# Altium footprint library Connectors.PcbLib: 3 footprints
Each footprint in its own frame and in the unit in brackets; x right, y up, seen from the top. Pads: shape width x height; smd on the part's side, far side on the other; paste and mask are expansions set on the pad; w line width, h text height; cw(c..) or ccw(c..) is an arc to the next point about the centre after c.
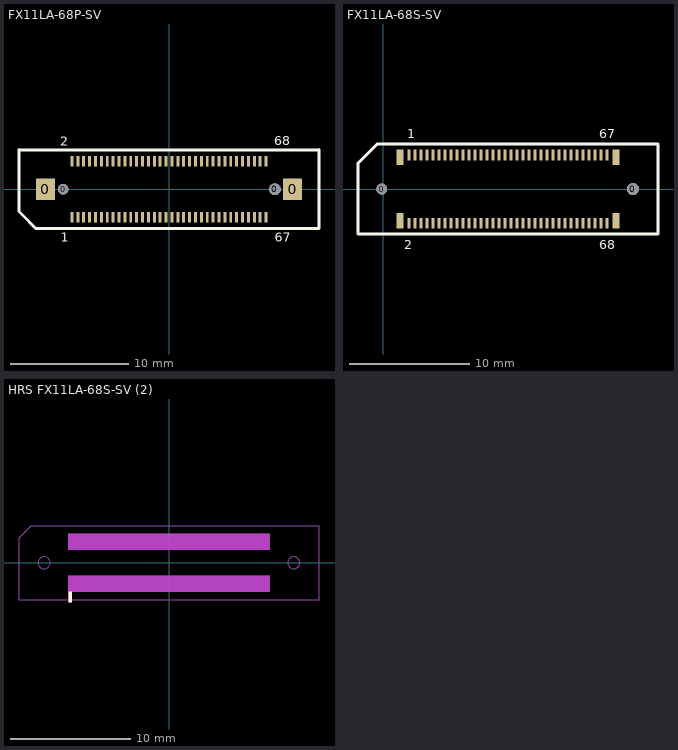
[diagram p0: the footprints below, top view; thin cyan lines are the x and y axes]

## FX11LA-68P-SV [mm] "HIROSE FX11L 2.0 mm stack height, w/ guidepost, header"
height 1.9
pads (72):
  rect 1.6x1.8 smd: 0(-10.5,0) 0(10.5,0)
  round 0.9 hole 0.9 unplated: 0(-9,0)
  round 1 hole 1 unplated: 0(9,0)
  rect 0.25x0.9 smd: 1(-8.25,-2.375) 2(-8.25,2.375) 3(-7.75,-2.375) 4(-7.75,2.375) 5(-7.25,-2.375) 6(-7.25,2.375) 7(-6.75,-2.375) 8(-6.75,2.375) 9(-6.25,-2.375) 10(-6.25,2.375) 11(-5.75,-2.375) 12(-5.75,2.375) 13(-5.25,-2.375) 14(-5.25,2.375) 15(-4.75,-2.375) 16(-4.75,2.375) 17(-4.25,-2.375) 18(-4.25,2.375) 19(-3.75,-2.375) 20(-3.75,2.375) 21(-3.25,-2.375) 22(-3.25,2.375) 23(-2.75,-2.375) 24(-2.75,2.375) 25(-2.25,-2.375) 26(-2.25,2.375) 27(-1.75,-2.375) 28(-1.75,2.375) 29(-1.25,-2.375) 30(-1.25,2.375) 31(-0.75,-2.375) 32(-0.75,2.375) 33(-0.25,-2.375) 34(-0.25,2.375) 35(0.25,-2.375) 36(0.25,2.375) 37(0.75,-2.375) 38(0.75,2.375) 39(1.25,-2.375) 40(1.25,2.375) 41(1.75,-2.375) 42(1.75,2.375) 43(2.25,-2.375) 44(2.25,2.375) 45(2.75,-2.375) 46(2.75,2.375) 47(3.25,-2.375) 48(3.25,2.375) 49(3.75,-2.375) 50(3.75,2.375) 51(4.25,-2.375) 52(4.25,2.375) 53(4.75,-2.375) 54(4.75,2.375) 55(5.25,-2.375) 56(5.25,2.375) 57(5.75,-2.375) 58(5.75,2.375) 59(6.25,-2.375) 60(6.25,2.375) 61(6.75,-2.375) 62(6.75,2.375) 63(7.25,-2.375) 64(7.25,2.375) 65(7.75,-2.375) 66(7.75,2.375) 67(8.25,-2.375) 68(8.25,2.375)
Top Overlay:
  lines w0.254: -12.75,3.35 12.75,3.35 ; -12.75,3.375 -12.75,0.25 -12.75,-1.9 -12.5,-2.15 -11.3,-3.35 12.75,-3.35 12.75,3.375
  text "1" at -9.2,-4.45 h0.76
  text "2" at -9.225,3.675 h0.76
  text "67" at 8.975,-4.45 h0.76
  text "68" at 8.95,3.725 h0.76

## FX11LA-68S-SV [mm] "HIROSE FX11L 2.0 mm stack height, w/ guidepost, receptacle"
height 1.65
pads (74):
  round 0.9 hole 0.9 unplated: 0(-0.127,0)
  rect 0.6x1.3 smd: 0(1.4,-2.65) 0(1.4,2.65) 0(19.4,-2.65) 0(19.4,2.65)
  round 1 hole 1 unplated: 0(20.8,0)
  rect 0.25x0.9 smd: 1(2.15,2.85) 2(2.15,-2.85) 3(2.65,2.85) 4(2.65,-2.85) 5(3.15,2.85) 6(3.15,-2.85) 7(3.65,2.85) 8(3.65,-2.85) 9(4.15,2.85) 10(4.15,-2.85) 11(4.65,2.85) 12(4.65,-2.85) 13(5.15,2.85) 14(5.15,-2.85) 15(5.65,2.85) 16(5.65,-2.85) 17(6.15,2.85) 18(6.15,-2.85) 19(6.65,2.85) 20(6.65,-2.85) 21(7.15,2.85) 22(7.15,-2.85) 23(7.65,2.85) 24(7.65,-2.85) 25(8.15,2.85) 26(8.15,-2.85) 27(8.65,2.85) 28(8.65,-2.85) 29(9.15,2.85) 30(9.15,-2.85) 31(9.65,2.85) 32(9.65,-2.85) 33(10.15,2.85) 34(10.15,-2.85) 35(10.65,2.85) 36(10.65,-2.85) 37(11.15,2.85) 38(11.15,-2.85) 39(11.65,2.85) 40(11.65,-2.85) 41(12.15,2.85) 42(12.15,-2.85) 43(12.65,2.85) 44(12.65,-2.85) 45(13.15,2.85) 46(13.15,-2.85) 47(13.65,2.85) 48(13.65,-2.85) 49(14.15,2.85) 50(14.15,-2.85) 51(14.65,2.85) 52(14.65,-2.85) 53(15.15,2.85) 54(15.15,-2.85) 55(15.65,2.85) 56(15.65,-2.85) 57(16.15,2.85) 58(16.15,-2.85) 59(16.65,2.85) 60(16.65,-2.85) 61(17.15,2.85) 62(17.15,-2.85) 63(17.65,2.85) 64(17.65,-2.85) 65(18.15,2.85) 66(18.15,-2.85) 67(18.65,2.85) 68(18.65,-2.85)
Top Overlay:
  lines w0.254: -2.1,2 -2.1,2.15 ; -2.1,2.15 -2.1,0 -2.1,-3.75 22.9,-3.75 22.9,3.75 -0.5,3.75 ; -2.1,2.15 -0.5,3.75 ; -2.1,2.15 -0.5,3.75
  text "68" at 18,-5 h0.76
  text "67" at 18,4.25 h0.76
  text "2" at 1.75,-5 h0.76
  text "1" at 2,4.25 h0.76
3D body: height 1.65, standoff -0.6, extent -2.108,-3.125 22.892,3.075

## HRS FX11LA-68S-SV (2) [mm] "HIROSE FX11L 2.0 mm stack height, w/ guidepost, receptacle"
height 1.65
Top Layer:
  rectangle: -8.4,-3.3 -8.1,-2.4
Top Overlay:
  region: -8.375,-2.425 -8.125,-2.425 -8.125,-3.275 -8.375,-3.275
Mechanical 1:
  circle w0.1: c-10.4,0 r0.5
  circle w0.1: c10.4,0 r0.5
  lines w0.1: -12.5,2.1 -12.5,2 -12.5,2.1 ; -12.5,2.1 -12.5,-3.1 12.5,-3.1 12.5,3.1 -11.5,3.1 -12.5,2.1
Mechanical 1 keep-out:
  region: -8.4,-2.4 -8.4,-1.1 8.4,-1.1 8.4,-2.4
  region: -8.4,2.4 -8.4,1.1 8.4,1.1 8.4,2.4